# EAGLE library part ZX62R-B-5P (library Library)
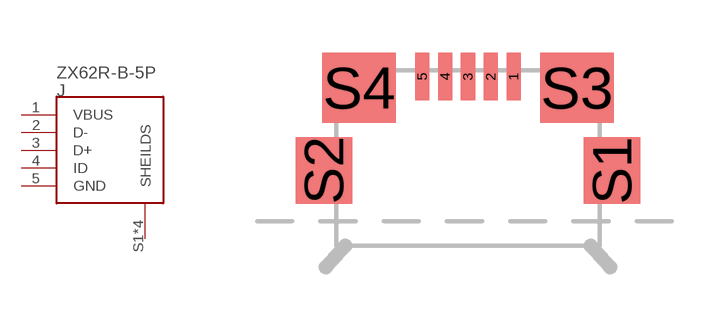
[diagram p0: symbol with the pads of ZX62R-B-5P; footprint ZX62R-B-5P]

Designator prefix J

## ZX62R-B-5P  [ZX62R-B-5P]
1  VBUS
2  D-
3  D+
4  ID
5  GND
S1  SHEILDS
S2  SHEILDS
S3  SHEILDS
S4  SHEILDS

## Footprint ZX62R-B-5P (pad centres in mm)
smd 0.4 x 1.35: 1 1.3,2.675; 2 0.65,2.675; 3 0,2.675; 4 -0.65,2.675; 5 -1.3,2.675
smd 1.6 x 1.9: S1 4.1,0; S2 -4.1,0
smd 2.1 x 2: S3 3.1,2.35; S4 -3.1,2.35